# Altium schematic symbol library mosfet_1s_1d.SchLib: 1 symbol
Pins are listed as number, name and electrical type; pins without a type are passive.

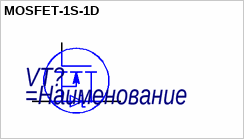
[diagram p0: symbol MOSFET-1S-1D]

## MOSFET-1S-1D
designator VT?
=Описание
pins: D, G, S